# Altium schematic symbol library ECE453-Interface.SchLib: 10 symbols
Pins are listed as number, name and electrical type; pins without a type are passive.

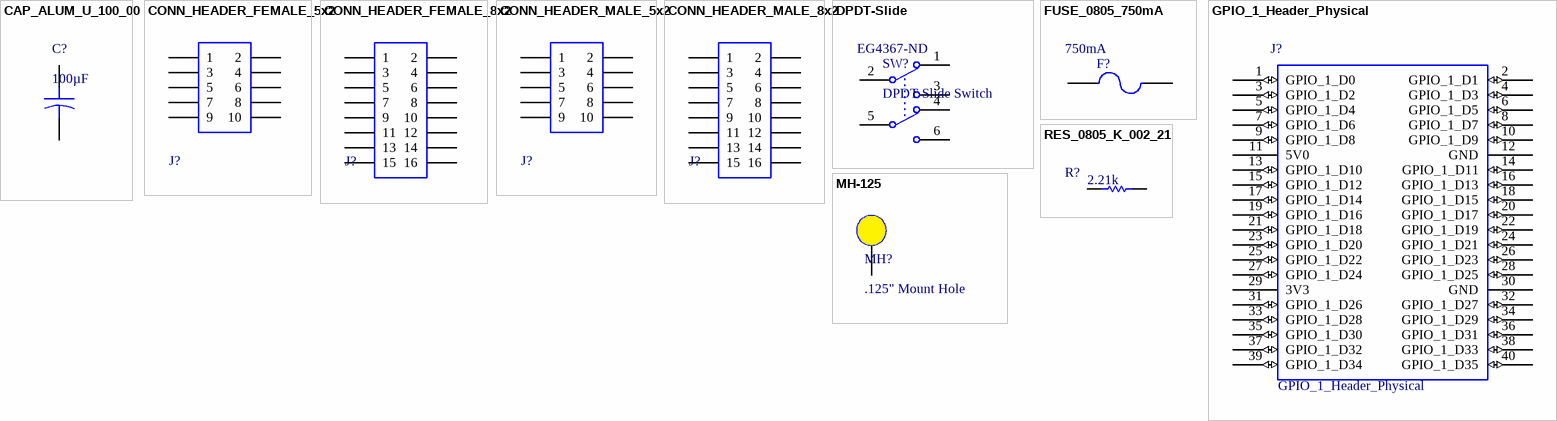
[diagram p0: symbols CAP_ALUM_U_100_00 to RES_0805_K_002_21]

## CAP_ALUM_U_100_00
designator C?, comment 100µF
CAP ALUM 100UF 20% 10V SMD; Manufacturer: Panasonic Electronic Components; Manufacturer Part Number: EEE-1AA101WR; Lifetime @ Temp.: 1000 Hrs @ 85°C; Ripple Current: 50mA; Surface Mount Land Size: 0.209" L x 0.209" W (5.30mm x 5.30mm); Supplier 1: Digi-Key; Supplier Part Number 1: PCE3867CT-ND; RoHS: RoHS Compliant; Category: Capacitors; Stock 1: 104778; Pricing 1: 1=0.44, 10=0.345, 25=0.2904, 50=0.249, 100=0.2076, 250=0.15568, 500=0.13284 (USD); Packaging: Cut Tape (CT); Value: 100µF; Tolerance: ±20%; Voltage Rating: 10V; ESR (Equivalent Series Resistance): -; Operating Temperature: -40°C ~ 85°C; Type: -; Applications: Automotive; Impedance: -; Lead Spacing: -; Size / Dimension: 0.197" Dia (5.00mm); Height - Seated (Max): 0.213" (5.40mm); Mounting Type: Surface Mount; Package / Case: Radial, Can - SMD; ComponentLink1URL: http://media.digikey.com/pdf/Data%20Sheets/Panasonic%20Electronic%20Components/S_Series_Type_V.pdf; ComponentLink1Description: http://media.digikey.com/pdf/Data%20Sheets/Panasonic%20Electronic%20Components/S_Series_Type_V.pdf
footprint PANACAP-C
pins: + 1, - 2

## CONN_HEADER_FEMALE_5x2
designator J?  (value not drawn)
CONN HEADER 2.54MM 10POS GOLD; Manufacturer Part Number: SBH11-PBPC-D05-ST-BK; Manufacturer: Sullins Connector Solutions; Pitch: 0.100" (2.54mm); Number of Positions: 10; Number of Positions Loaded: All; Connector Type: Header, Shrouded; Contact Mating Length: -; Fastening Type: -; Termination: Solder; Mounting Type: Through Hole; Color: Black; Contact Finish Thickness: Flash; Row Spacing: 0.100" (2.54mm); Contact Finish: Gold; Number of Rows: 2; Features: Polarizing Key; Contact Type: Male Pin; Supplier: Digi-Key; Category: Connectors, Interconnects; Packaging: Tray; Part Status: Active; RoHS: RoHS Compliant; Supplier Part Number: S9169-ND
footprint SFH11-PBPC-D05-ST-BK (CONN HEADR FMALE 10POS .1" DL AU)
pins: 1, 2, 3, 4, 5, 6, 7, 8, 9, 10

## CONN_HEADER_FEMALE_8x2
designator J?  (value not drawn)
CONN HEADER 2.54MM 16POS GOLD; Manufacturer: Sullins Connector Solutions; Manufacturer Part Number: SBH11-PBPC-D08-ST-BK; Pitch: 0.100" (2.54mm); Number of Positions Loaded: All; Number of Positions: 16; Connector Type: Header, Shrouded; Contact Finish Thickness: Flash; Contact Mating Length: -; Fastening Type: -; Contact Finish: Gold; Packaging: Tray; Row Spacing: 0.100" (2.54mm); RoHS: RoHS Compliant; Contact Type: Male Pin; Category: Connectors, Interconnects; Part Status: Active; Features: Polarizing Key; Color: Black; Mounting Type: Through Hole; Supplier: Digi-Key; Termination: Solder; Number of Rows: 2; Supplier Part Number: S9171-ND
footprint SFH11-PBPC-D08-ST-BK (CONN HEADR FMALE 16POS .1" DL AU)
pins: 1, 2, 3, 4, 5, 6, 7, 8, 9, 10, 11, 12, 13, 14, 15, 16

## CONN_HEADER_MALE_5x2
designator J?  (value not drawn)
CONN HEADER 2.54MM 10POS GOLD; Manufacturer Part Number: SBH11-PBPC-D05-ST-BK; Manufacturer: Sullins Connector Solutions; Pitch: 0.100" (2.54mm); Number of Positions: 10; Number of Positions Loaded: All; Connector Type: Header, Shrouded; Contact Mating Length: -; Fastening Type: -; Termination: Solder; Mounting Type: Through Hole; Color: Black; Contact Finish Thickness: Flash; Row Spacing: 0.100" (2.54mm); Contact Finish: Gold; Number of Rows: 2; Features: Polarizing Key; Contact Type: Male Pin; Supplier: Digi-Key; Category: Connectors, Interconnects; Packaging: Tray; Part Status: Active; RoHS: RoHS Compliant; Supplier Part Number: S9169-ND
footprint SBH11-PBPC-D05-ST-BK (Connector; Header; 5x2 Position)
pins: 1, 2, 3, 4, 5, 6, 7, 8, 9, 10

## CONN_HEADER_MALE_8x2
designator J?  (value not drawn)
CONN HEADER 2.54MM 16POS GOLD; Manufacturer: Sullins Connector Solutions; Manufacturer Part Number: SBH11-PBPC-D08-ST-BK; Pitch: 0.100" (2.54mm); Number of Positions Loaded: All; Number of Positions: 16; Connector Type: Header, Shrouded; Contact Finish Thickness: Flash; Contact Mating Length: -; Fastening Type: -; Contact Finish: Gold; Packaging: Tray; Row Spacing: 0.100" (2.54mm); RoHS: RoHS Compliant; Contact Type: Male Pin; Category: Connectors, Interconnects; Part Status: Active; Features: Polarizing Key; Color: Black; Mounting Type: Through Hole; Supplier: Digi-Key; Termination: Solder; Number of Rows: 2; Supplier Part Number: S9171-ND
footprint SBH11-PBPC-D08-ST-BK (Connector; Header; 8x2 Position)
pins: 1, 2, 3, 4, 5, 6, 7, 8, 9, 10, 11, 12, 13, 14, 15, 16

## DPDT-Slide
designator SW?, comment DPDT Slide Switch  Supplier Part Number 1: EG4367-ND
Manufacturer: E-Switch; Manufacturer Part Number: EG2219; Contact Timing: Non-Shorting (BBM); Switch Function: On-On; Current Rating: 500mA (DC); Voltage Rating - DC: 15V; Actuator Type: Standard; Actuator Length: 9.00mm; Switch Travel: 4.00mm; Operating Force: 250gf; Supplier 1: Digi-Key; RoHS: RoHS Compliant; Category: Switches; Stock 1: 488; Pricing 1: 1=0.8, 10=0.768, 25=0.752, 50=0.672, 100=0.64, 250=0.624, 500=0.528, 1000=0.512, 5000=0.448 (USD); Packaging: Bulk; Part Status: Active; Circuit: DPDT; Voltage Rating - AC: -; Contact Material: Copper Alloy; Contact Finish: Silver; Mounting Type: Through Hole, Right Angle; Termination Style: PC Pin; Features: -; Actuator Material: -; Operating Temperature: -20°C ~ 70°C; Mechanical Life: -; Electrical Life: -; ComponentLink1URL: http://spec_sheets.e-switch.com/specs/P040170.pdf; ComponentLink1Description: http://spec_sheets.e-switch.com/specs/P040170.pdf
footprint SLIDE6X4X2.5 (E-Switch EG2219)
pins: 1, 2 C, 3, 4, 5 C, 6

## FUSE_0805_750mA
designator F?, comment 750mA
PTC RESTTBLE 0.75A 6V CHIP 0805; Manufacturer: Bel Fuse Inc.; Manufacturer Part Number: 0ZCK0075FF2E; Current - Max: 40A; Current - Trip (It): 1.5A; R Min/Max: 0.090 ~ 0.350 Ohm; Time to Trip: 0.2s; Supplier 1: Digi-Key; Supplier Part Number 1: 507-1814-1-ND; RoHS: RoHS Compliant; Category: Circuit Protection; Stock 1: 18309; Pricing 1: 1=0.19, 10=0.176, 25=0.1628, 100=0.1463, 250=0.13028, 500=0.10858, 1000=0.10288 (USD); Packaging: Cut Tape (CT); Voltage - Max: 6V; Package / Case: 0805 (2012 Metric), Concave; ComponentLink1URL: http://www.belfuse.com/pdfs/0ZCK.pdf; ComponentLink1Description: http://www.belfuse.com/pdfs/0ZCK.pdf; Current - Hold (Ih) (Max): 750mA
footprint FUSE_0805 (Chip Fuse, 2-Leads, Body 2.15x1.35mm, IPC Low Density)
pins: 1, 2

## GPIO_1_Header_Physical
designator J?  value GPIO_1_Header_Physical
2x20 Polarized Female .100" Connector; Manufacturer: Sullins Connector Solutions; Manufacturer Part Number: SFH11-PBPC-D20-ST-BK; Connector Type: Header; Number of Positions: 40; Number of Positions Loaded: All; Pitch: 0.100" (2.54mm); Supplier 1: Digi-Key; Supplier Part Number 1: S9200-ND; RoHS: RoHS Compliant; Category: Connectors, Interconnects; Stock 1: 3855; Pricing 1: 1=2.31, 10=1.913, 25=1.7932, 50=1.594, 100=1.4346, 250=1.32304, 500=1.1955, 1000=1.06001, 2500=1.01618 (USD); Packaging: Tray; Contact Type: Female Socket; Number of Rows: 2; Row Spacing: 0.100" (2.54mm); Mounting Type: Through Hole; Termination: Solder; Fastening Type: -; Features: Polarizing Key; Contact Finish: Gold; Contact Finish Thickness: Flash; Color: Black; ComponentLink1URL: http://sullinscorp.com/catalogs/146_PAGE119_.100_SFH11_SERIES_FEMALE_HDR_ST_RA.pdf; ComponentLink1Description: http://sullinscorp.com/catalogs/146_PAGE119_.100_SFH11_SERIES_FEMALE_HDR_ST_RA.pdf
footprint DIP40
pins: 1 GPIO_1_D0 (io), 2 GPIO_1_D1 (io), 3 GPIO_1_D2 (io), 4 GPIO_1_D3 (io), 5 GPIO_1_D4 (io), 6 GPIO_1_D5 (io), 7 GPIO_1_D6 (io), 8 GPIO_1_D7 (io), 9 GPIO_1_D8 (io), 10 GPIO_1_D9 (io), 11 5V0, 12 GND (power), 13 GPIO_1_D10 (io), 14 GPIO_1_D11 (io), 15 GPIO_1_D12 (io), 16 GPIO_1_D13 (io), 17 GPIO_1_D14 (io), 18 GPIO_1_D15 (io), 19 GPIO_1_D16 (io), 20 GPIO_1_D17 (io), 21 GPIO_1_D18 (io), 22 GPIO_1_D19 (io), 23 GPIO_1_D20 (io), 24 GPIO_1_D21 (io), 25 GPIO_1_D22 (io), 26 GPIO_1_D23 (io), 27 GPIO_1_D24 (io), 28 GPIO_1_D25 (io), 29 3V3, 30 GND (power), 31 GPIO_1_D26 (io), 32 GPIO_1_D27 (io), 33 GPIO_1_D28 (io), 34 GPIO_1_D29 (io), 35 GPIO_1_D30 (io), 36 GPIO_1_D31 (io), 37 GPIO_1_D32 (io), 38 GPIO_1_D33 (io), 39 GPIO_1_D34 (io), 40 GPIO_1_D35 (io)

## MH-125
designator MH?, comment .125" Mount Hole
.125" Mount Hole with .300" Keepout
footprint MTHOLE_125-300KeepOut (0.125 in Hole w 0.300 Keep Out)
pins: 1 "Pin 1"

## RES_0805_K_002_21
designator R?  value 2.21k
RES SMD 2.21K OHM 1% 1/8W 0805; Manufacturer: Yageo; Manufacturer Part Number: RC0805FR-072K21L; Power (Watts): 0.125W, 1/8W; Temperature Coefficient: ±100ppm/°C; Supplier 1: Digi-Key; Supplier Part Number 1: 311-2.21KCRCT-ND; RoHS: RoHS Compliant; Category: Resistors; Stock 1: 159809; Pricing 1: 1=0.1, 10=0.021, 25=0.0152, 100=0.0084, 250=0.00644, 500=0.00514, 1000=0.00379, 2500=0.00329 (USD); Packaging: Cut Tape (CT); Tolerance: ±1%; Composition: Thick Film; Features: Moisture Resistant; Operating Temperature: -55°C ~ 155°C; Package / Case: 0805 (2012 Metric); Supplier Device Package: 0805; Size / Dimension: 0.079" L x 0.049" W (2.00mm x 1.25mm); Height: 0.024" (0.60mm); Number of Terminations: 2; ComponentLink1URL: http://www.yageo.com/NewPortal/yageodocoutput?fileName=/pdf/R-Chip/PYu-RC_Group_51_RoHS_L_3.pdf; ComponentLink1Description: http://www.yageo.com/NewPortal/yageodocoutput?fileName=/pdf/R-Chip/PYu-RC_Group_51_RoHS_L_3.pdf
footprint RES_0805 (Chip Resistor, 2-Leads, Body 2.00x1.25mm, IPC Medium Density)
pins: 1, 2